# Altium footprint library MergenElektronik_Switches_TactileSwitches.PcbLib: 2 footprints
Each footprint in its own frame and in the unit in brackets; x right, y up, seen from the top. Pads: shape width x height; smd on the part's side, far side on the other; paste and mask are expansions set on the pad; w line width, h text height; cw(c..) or ccw(c..) is an arc to the next point about the centre after c.
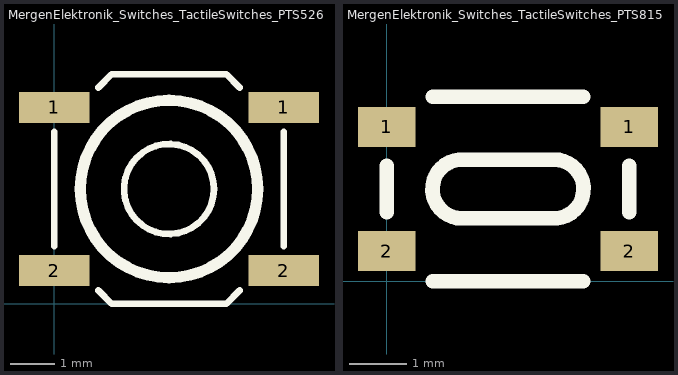
[diagram p0: the footprints below, top view; thin cyan lines are the x and y axes]

## MergenElektronik_Switches_TactileSwitches_PTS526 [mm] "PTS526 1.5mm Height"
pads (4):
  rect 1.6x0.7 smd: 1(0,4.45) 1(5.2,4.45) 2(0,0.75) 2(5.2,0.75)
Top Overlay:
  circle w0.254: c2.6,2.6 r2.01
  circle w0.15: c2.6,2.6 r1.02
  lines w0.15: 0,1.3 0,3.9 ; 1,0.3 1.3,0 3.9,0 4.2,0.3 ; 1,4.9 1.3,5.2 3.9,5.2 4.2,4.9 ; 5.2,1.3 5.2,3.9
3D body "TS18-5-20-SL-160-SMT-TR_V00.STEP": height 2, standoff -0.08, extent -0.55,-0.1 5.75,5.3

## MergenElektronik_Switches_TactileSwitches_PTS815 [mm] "PTS815"
pads (4):
  rect 1x0.7 smd: 1(0,2.675) 1(4.2,2.675) 2(0,0.525) 2(4.2,0.525)
Top Overlay:
  lines w0.254: 0,1.2 0,2 ; 0.8,0 3.4,0 ; 0.8,3.2 3.4,3.2 ; 1.3,1.09 cw(c1.3,1.6) 1.244,2.107 2.897,2.107 ; 1.303,1.093 2.956,1.093 ccw(c2.9,1.6) 2.9,2.11 ; 4.2,1.2 4.2,2
3D body "PTS815SJK250.stp": height 2.5, standoff 0, extent -0.25,-0.05 4.45,3.25